# EAGLE library part LTC3421 (library Octanis1_EPS)
3A, 3MHz Micropower Synchronous Boost Converter with Output Disconnect
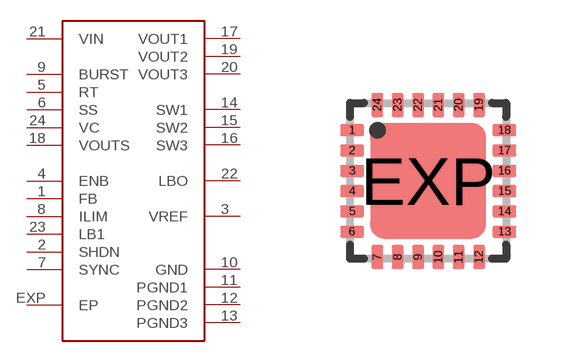
[diagram p3: symbol with the pads of QFN24; footprint QFN24]

Designator prefix -

## LTC3421  [QFN24]
1  FB
2  SHDN
3  VREF
4  ENB
5  RT
6  SS
7  SYNC
8  ILIM
9  BURST
10  GND
11  PGND1
12  PGND2
13  PGND3
14  SW1
15  SW2
16  SW3
17  VOUT1
18  VOUTS
19  VOUT2
20  VOUT3
21  VIN
22  LBO
23  LB1
24  VC
EXP  EP

## Footprint QFN24 (pad centres in mm)
QFN 4x4 mm Source: http://www.hittite.com/product_info/product_specs/dividersdetectors/hmc394lp4.pdf
smd 0.6 x 0.3: 1 -1.905,1.27; 2 -1.905,0.762; 3 -1.905,0.254; 4 -1.905,-0.254; 5 -1.905,-0.762; 6 -1.905,-1.27; 13 1.905,-1.27; 14 1.905,-0.762; 15 1.905,-0.254; 16 1.905,0.254; 17 1.905,0.762; 18 1.905,1.27
smd 0.3 x 0.6: 7 -1.27,-1.905; 8 -0.762,-1.905; 9 -0.254,-1.905; 10 0.254,-1.905; 11 0.762,-1.905; 12 1.27,-1.905; 19 1.27,1.905; 20 0.762,1.905; 21 0.254,1.905; 22 -0.254,1.905; 23 -0.762,1.905; 24 -1.27,1.905
smd 2.9 x 2.9: EXP 0,0